# Altium schematic symbol library Connectors.SchLib: 25 symbols
Pins are listed as number, name and electrical type; pins without a type are passive.

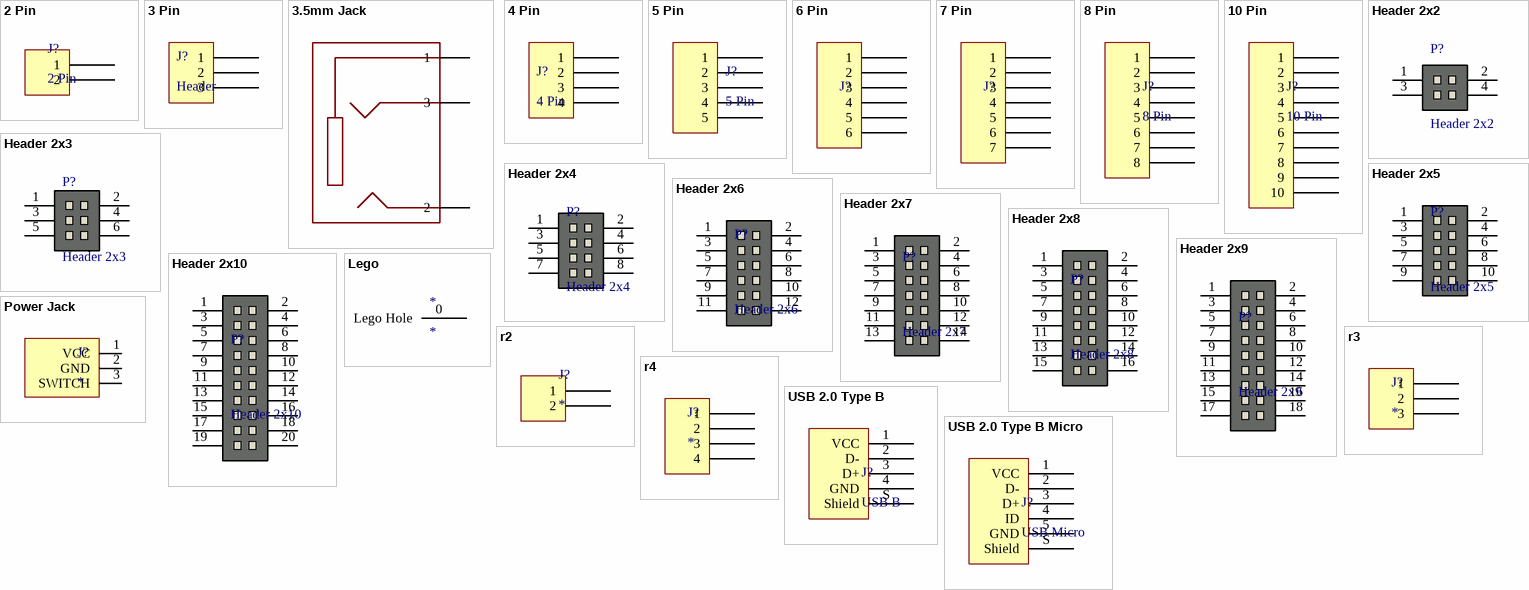
[diagram p0: symbols 2 Pin to USB 2.0 Type B Micro]

## 2 Pin
designator J?
footprint MOLEX KK 0022272021
footprint TE 282834-2
footprint JST XH B2B-XH-A
footprint JST XH B2B-XH-A - RIGHT
footprint Socket_Blue_2
footprint HDR 1X2 (Connector; Header; 2 Position)
footprint PRKR2A
pins: 1, 2

## 3 Pin
designator J?, comment Header
footprint MOLEX KK 0022272031
footprint TE 282834-3
footprint JST XH B3B-XH-A
footprint JST XH B3B-XH-A - RIGHT
footprint Socket_Blue_3
footprint HDR 1X3 (Connector; Header; 3 Position)
footprint PRKR3A
pins: 1, 2, 3

## 3.5mm Jack
designator ?, comment 3.5 mm Right-Angle Stereo Jack, 4 Pin PCB Mount, Isolated Ground  (value not drawn)
GateName_1: G$1; SymbolName_1: SJ1-3524NG; MF: CUI; LibraryName: SJ1-3524NG; DeviceSetName: SJ1-3524NG; Package: PIN-4; Price: 0.55 USD; Package: None; MP: SJ1-3524NG; Availability: Good
footprint 3.5mm jack
pins: 1, 2, 3

## 4 Pin
designator J?
footprint MOLEX KK 0022272041
footprint TE 282834-4
footprint JST XH B4B-XH-A
footprint JST XH B4B-XH-A - RIGHT
footprint HDR 1X4 (Connector; Header; 4 Position)
footprint PRKR4A
pins: 1, 2, 3, 4

## 5 Pin
designator J?
footprint MOLEX KK 0022272051
footprint TE 282834-5
footprint JST XH B5B-XH-A
footprint JST XH B5B-XH-A - RIGHT
footprint HDR 1X5 (Connector; Header; 5 Position)
footprint PRKR5A
pins: 1, 2, 3, 4, 5

## 6 Pin
designator J?
footprint JST XH B6B-XH-A
footprint JST XH B6B-XH-A - RIGHT
footprint HDR 1X6 (Connector; Header; 6 Position)
footprint PRKR6A
pins: 1, 2, 3, 4, 5, 6

## 7 Pin
designator J?
footprint JST XH B7B-XH-A
footprint JST XH B7B-XH-A - RIGHT
footprint HDR 1X7 (Connector; Header; 7 Position)
footprint PRKR7A
pins: 1, 2, 3, 4, 5, 6, 7

## 8 Pin
designator J?
footprint JST XH B8B-XH-A
footprint JST XH B8B-XH-A - RIGHT
footprint HDR 1X8 (Connector; Header; 8 Position)
footprint PRKR8A
pins: 1, 2, 3, 4, 5, 6, 7, 8

## 10 Pin
designator J?
footprint JST XH B10B-XH-A
footprint JST XH B10B-XH-A - RIGHT
footprint HDR 1X10 (Connector; Header; 10 Position)
footprint PRKR10A
pins: 1, 2, 3, 4, 5, 6, 7, 8, 9, 10

## Header 2x2
designator P?
footprint HDR 2X2 (Connector; Header; 2x2 Position)
pins: 1, 2, 3, 4

## Header 2x3
designator P?
footprint HDR 2X3 (Connector; Header; 2x3 Position)
pins: 1, 2, 3, 4, 5, 6

## Header 2x4
designator P?
footprint HDR 2X4 (Connector; Header; 2x4 Position)
pins: 1, 2, 3, 4, 5, 6, 7, 8

## Header 2x5
designator P?
footprint HDR 2X5 (Connector; Header; 2x5 Position)
pins: 1, 2, 3, 4, 5, 6, 7, 8, 9, 10

## Header 2x6
designator P?
footprint HDR 2X6 (Connector; Header; 2x6 Position)
pins: 1, 2, 3, 4, 5, 6, 7, 8, 9, 10, 11, 12

## Header 2x7
designator P?
footprint HDR 2X7 (Connector; Header; 2x7 Position)
pins: 1, 2, 3, 4, 5, 6, 7, 8, 9, 10, 11, 12, 13, 14

## Header 2x8
designator P?
footprint HDR 2X8 (Connector; Header; 2x8 Position)
pins: 1, 2, 3, 4, 5, 6, 7, 8, 9, 10, 11, 12, 13, 14, 15, 16

## Header 2x9
designator P?
footprint HDR 2X9 (Connector; Header; 2x9 Position)
pins: 1, 2, 3, 4, 5, 6, 7, 8, 9, 10, 11, 12, 13, 14, 15, 16, 17, 18

## Header 2x10
designator P?
footprint HDR 2X10 (Connector; Header; 2x10 Position)
pins: 1, 2, 3, 4, 5, 6, 7, 8, 9, 10, 11, 12, 13, 14, 15, 16, 17, 18, 19, 20

## Lego
designator *
footprint Lego Hole
pins: 0 Lego Hole

## Power Jack
designator J?
footprint Power Jack (Pin connections for Barrel Jack)
pins: 1 VCC, 2 GND, 3 SWITCH

## r2
designator J?
footprint MOLEX SDA-70553-2PIN (SL Right angle header with latch, 0.100 centres, SDA-70553)
pins: 1, 2

## r3
designator J?
footprint MOLEX SDA-70553-3PIN (SL Right Angle Header W/LAtch & Trip-Pegs 2.54mm Centres)
pins: 1, 2, 3

## r4
designator J?
footprint MOLEX SDA-70553-4PIN (SL Right Angle Header W/LAtch & Trip-Pegs 2.54mm Centres)
pins: 1, 2, 3, 4

## USB 2.0 Type B
designator J?, comment USB B
footprint FCI USB 61729-0010BLF
pins: 1 VCC, 2 D-, 3 D+, 4 GND, S Shield

## USB 2.0 Type B Micro
designator J?, comment USB Micro
footprint FCI USB 10033526-N3212LF (USB 2.0 Type B Mini)
footprint FCI USB 10118193-0001LF (USB 2.0 Type B Micro)
pins: 1 VCC, 2 D-, 3 D+, 4 ID, 5 GND, S Shield